# EAGLE library part MICRO_USB_B-AMPHENOL(10118192) (library usb_microB_10118192)
MICRO USB B TYPE RECEPTACLE (10118192) - AMPHENOL
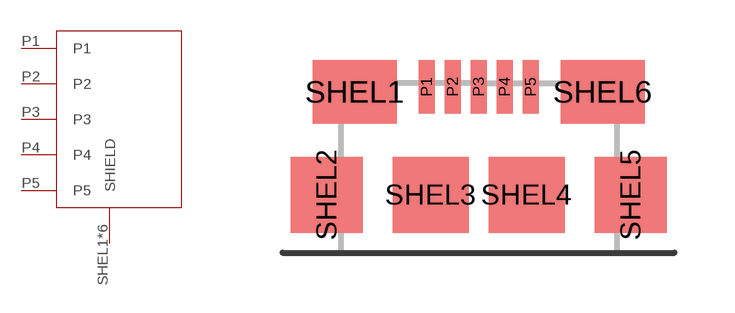
[diagram p0: symbol with the pads of MICRO_B_10118192; footprint MICRO_B_10118192]

Designator prefix -

## MICRO_USB_B-AMPHENOL(10118192)  [MICRO_B_10118192]
P1  P1
P2  P2
P3  P3
P4  P4
P5  P5
SHEL1  SHIELD
SHEL2  SHIELD
SHEL3  SHIELD
SHEL4  SHIELD
SHEL5  SHIELD
SHEL6  SHIELD

## Footprint MICRO_B_10118192 (pad centres in mm)
smd 0.4 x 1.35: P1 -1.3,2.7; P2 -0.65,2.7; P3 0,2.7; P4 0.65,2.7; P5 1.3,2.7
smd 2.1 x 1.6: SHEL1 -3.1,2.575; SHEL6 3.1,2.575
smd 1.8 x 1.9: SHEL2 -3.8,0; SHEL5 3.8,0
smd 1.9 x 1.9: SHEL3 -1.2,0; SHEL4 1.2,0